# EAGLE library part LB1836M (library GRITSBot)
LB1836M: Low-Saturation Bidirectional Motor Driver for Low-Voltage Drive • Low voltage operation (2.5V min) • Low saturation voltage (upper transistor + lower transistor residual voltage ; 0.40V typ at 400mA). • Parallel connection (Upper transistor + lower tr ansistor residual voltage ; 0.5V typ at 800mA). • Separate logic power supply and motor power supply • Brake function • Spark killer diodes built in • Thermal shutdown circuit built in • Compact package (14-pin MFP) (see http://www.onsemi.com/pub_link/Collateral/LB1836M-D.PDF)
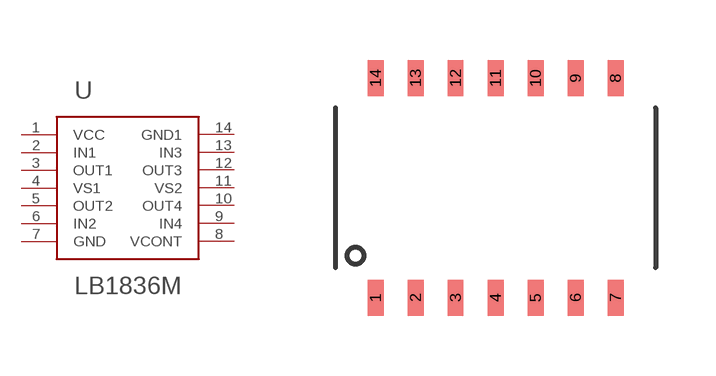
[diagram p8: symbol with the pads of LSOP-14; footprint LSOP-14]

Designator prefix -

## LB1836M  [LSOP-14]
1  VCC
2  IN1
3  OUT1
4  VS1
5  OUT2
6  IN2
7  GND
8  VCONT
9  IN4
10  OUT4
11  VS2
12  OUT3
13  IN3
14  GND1

## Footprint LSOP-14 (pad centres in mm)
smd 0.4 x 0.9: 1 -3.01,-2.75; 2 -2.01,-2.75; 3 -1.01,-2.75; 4 -0.01,-2.75; 5 0.99,-2.75; 6 1.99,-2.75; 7 2.99,-2.75; 8 2.99,2.75; 9 1.99,2.75; 10 0.99,2.75; 11 -0.01,2.75; 12 -1.01,2.75; 13 -2.01,2.75; 14 -3.01,2.75